# Altium schematic symbol library SCH - ARM CORTEX - STM STM32G0C1K(C-E)UxN.SchLib: 1 symbol
Pins are listed as number, name and electrical type; pins without a type are passive.

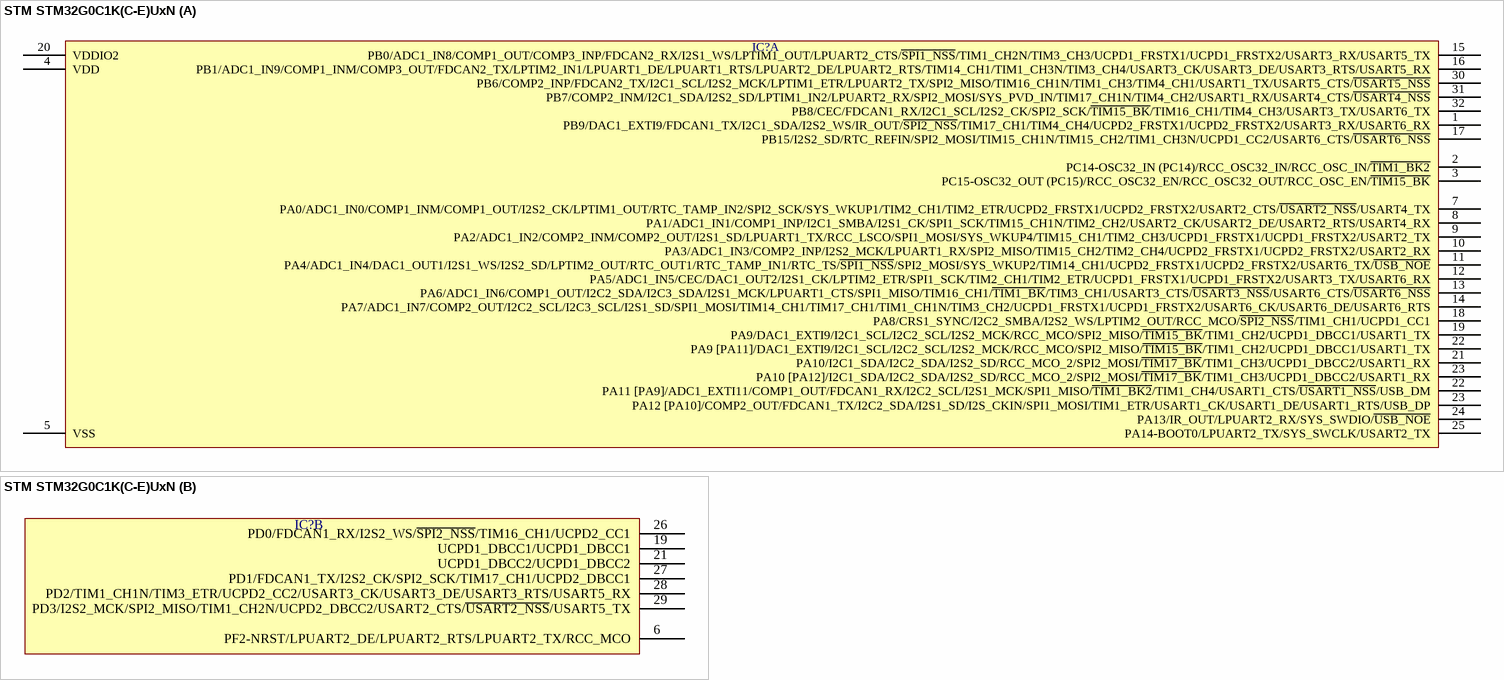
[diagram p0: symbol STM STM32G0C1K(C-E)UxN]

## STM STM32G0C1K(C-E)UxN
designator IC?  (value not drawn)
part A pins: 1 PB9/DAC1_EXTI9/FDCAN1_TX/I2C1_SDA/I2S2_WS/IR_OUT/~{SPI2_NSS}/TIM17_CH1/TIM4_CH4/UCPD2_FRSTX1/UCPD2_FRSTX2/USART3_RX/USART6_RX, 2 PC14-OSC32_IN (PC14)/RCC_OSC32_IN/RCC_OSC_IN/~{TIM1_BK2}, 3 PC15-OSC32_OUT (PC15)/RCC_OSC32_EN/RCC_OSC32_OUT/RCC_OSC_EN/~{TIM15_BK}, 4 VDD, 5 VSS, 7 PA0/ADC1_IN0/COMP1_INM/COMP1_OUT/I2S2_CK/LPTIM1_OUT/RTC_TAMP_IN2/SPI2_SCK/SYS_WKUP1/TIM2_CH1/TIM2_ETR/UCPD2_FRSTX1/UCPD2_FRSTX2/USART2_CTS/~{USART2_NSS}/USART4_TX, 8 PA1/ADC1_IN1/COMP1_INP/I2C1_SMBA/I2S1_CK/SPI1_SCK/TIM15_CH1N/TIM2_CH2/USART2_CK/USART2_DE/USART2_RTS/USART4_RX, 9 PA2/ADC1_IN2/COMP2_INM/COMP2_OUT/I2S1_SD/LPUART1_TX/RCC_LSCO/SPI1_MOSI/SYS_WKUP4/TIM15_CH1/TIM2_CH3/UCPD1_FRSTX1/UCPD1_FRSTX2/USART2_TX, 10 PA3/ADC1_IN3/COMP2_INP/I2S2_MCK/LPUART1_RX/SPI2_MISO/TIM15_CH2/TIM2_CH4/UCPD2_FRSTX1/UCPD2_FRSTX2/USART2_RX, 11 PA4/ADC1_IN4/DAC1_OUT1/I2S1_WS/I2S2_SD/LPTIM2_OUT/RTC_OUT1/RTC_TAMP_IN1/RTC_TS/~{SPI1_NSS}/SPI2_MOSI/SYS_WKUP2/TIM14_CH1/UCPD2_FRSTX1/UCPD2_FRSTX2/USART6_TX/~{USB_NOE}, 12 PA5/ADC1_IN5/CEC/DAC1_OUT2/I2S1_CK/LPTIM2_ETR/SPI1_SCK/TIM2_CH1/TIM2_ETR/UCPD1_FRSTX1/UCPD1_FRSTX2/USART3_TX/USART6_RX, 13 PA6/ADC1_IN6/COMP1_OUT/I2C2_SDA/I2C3_SDA/I2S1_MCK/LPUART1_CTS/SPI1_MISO/TIM16_CH1/~{TIM1_BK}/TIM3_CH1/USART3_CTS/~{USART3_NSS}/USART6_CTS/~{USART6_NSS}, 14 PA7/ADC1_IN7/COMP2_OUT/I2C2_SCL/I2C3_SCL/I2S1_SD/SPI1_MOSI/TIM14_CH1/TIM17_CH1/TIM1_CH1N/TIM3_CH2/UCPD1_FRSTX1/UCPD1_FRSTX2/USART6_CK/USART6_DE/USART6_RTS, 15 PB0/ADC1_IN8/COMP1_OUT/COMP3_INP/FDCAN2_RX/I2S1_WS/LPTIM1_OUT/LPUART2_CTS/~{SPI1_NSS}/TIM1_CH2N/TIM3_CH3/UCPD1_FRSTX1/UCPD1_FRSTX2/USART3_RX/USART5_TX, 16 PB1/ADC1_IN9/COMP1_INM/COMP3_OUT/FDCAN2_TX/LPTIM2_IN1/LPUART1_DE/LPUART1_RTS/LPUART2_DE/LPUART2_RTS/TIM14_CH1/TIM1_CH3N/TIM3_CH4/USART3_CK/USART3_DE/USART3_RTS/USART5_RX, 17 PB15/I2S2_SD/RTC_REFIN/SPI2_MOSI/TIM15_CH1N/TIM15_CH2/TIM1_CH3N/UCPD1_CC2/USART6_CTS/~{USART6_NSS}, 18 PA8/CRS1_SYNC/I2C2_SMBA/I2S2_WS/LPTIM2_OUT/RCC_MCO/~{SPI2_NSS}/TIM1_CH1/UCPD1_CC1, 19 PA9/DAC1_EXTI9/I2C1_SCL/I2C2_SCL/I2S2_MCK/RCC_MCO/SPI2_MISO/~{TIM15_BK}/TIM1_CH2/UCPD1_DBCC1/USART1_TX, 20 VDDIO2, 21 PA10/I2C1_SDA/I2C2_SDA/I2S2_SD/RCC_MCO_2/SPI2_MOSI/~{TIM17_BK}/TIM1_CH3/UCPD1_DBCC2/USART1_RX, 22 PA9 [PA11]/DAC1_EXTI9/I2C1_SCL/I2C2_SCL/I2S2_MCK/RCC_MCO/SPI2_MISO/~{TIM15_BK}/TIM1_CH2/UCPD1_DBCC1/USART1_TX, 22 PA11 [PA9]/ADC1_EXTI11/COMP1_OUT/FDCAN1_RX/I2C2_SCL/I2S1_MCK/SPI1_MISO/~{TIM1_BK2}/TIM1_CH4/USART1_CTS/~{USART1_NSS}/USB_DM, 23 PA10 [PA12]/I2C1_SDA/I2C2_SDA/I2S2_SD/RCC_MCO_2/SPI2_MOSI/~{TIM17_BK}/TIM1_CH3/UCPD1_DBCC2/USART1_RX, 23 PA12 [PA10]/COMP2_OUT/FDCAN1_TX/I2C2_SDA/I2S1_SD/I2S_CKIN/SPI1_MOSI/TIM1_ETR/USART1_CK/USART1_DE/USART1_RTS/USB_DP, 24 PA13/IR_OUT/LPUART2_RX/SYS_SWDIO/~{USB_NOE}, 25 PA14-BOOT0/LPUART2_TX/SYS_SWCLK/USART2_TX, 30 PB6/COMP2_INP/FDCAN2_TX/I2C1_SCL/I2S2_MCK/LPTIM1_ETR/LPUART2_TX/SPI2_MISO/TIM16_CH1N/TIM1_CH3/TIM4_CH1/USART1_TX/USART5_CTS/~{USART5_NSS}, 31 PB7/COMP2_INM/I2C1_SDA/I2S2_SD/LPTIM1_IN2/LPUART2_RX/SPI2_MOSI/SYS_PVD_IN/TIM17_CH1N/TIM4_CH2/USART1_RX/USART4_CTS/~{USART4_NSS}, 32 PB8/CEC/FDCAN1_RX/I2C1_SCL/I2S2_CK/SPI2_SCK/~{TIM15_BK}/TIM16_CH1/TIM4_CH3/USART3_TX/USART6_TX
part B pins: 6 PF2-NRST/LPUART2_DE/LPUART2_RTS/LPUART2_TX/RCC_MCO, 19 UCPD1_DBCC1/UCPD1_DBCC1, 21 UCPD1_DBCC2/UCPD1_DBCC2, 26 PD0/FDCAN1_RX/I2S2_WS/~{SPI2_NSS}/TIM16_CH1/UCPD2_CC1, 27 PD1/FDCAN1_TX/I2S2_CK/SPI2_SCK/TIM17_CH1/UCPD2_DBCC1, 28 PD2/TIM1_CH1N/TIM3_ETR/UCPD2_CC2/USART3_CK/USART3_DE/USART3_RTS/USART5_RX, 29 PD3/I2S2_MCK/SPI2_MISO/TIM1_CH2N/UCPD2_DBCC2/USART2_CTS/~{USART2_NSS}/USART5_TX